# EAGLE library part ISL3152E (library U-Transceiver)
TRANSCEIVER RS485 5V HALFDPLX
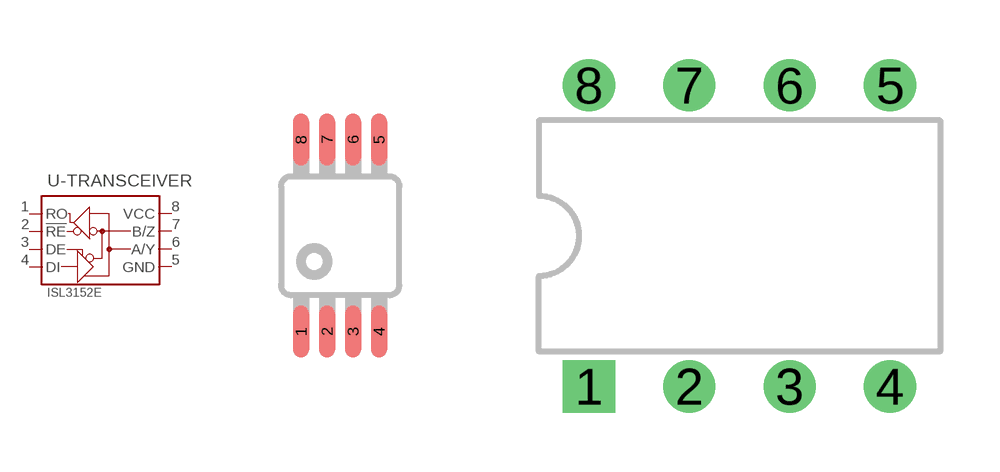
[diagram p1: symbol with the pads of MSOP8; footprints MSOP8, 8DIP]

Designator prefix U-TRANSCEIVER

## ISL3152EIUZ  [MSOP8]
1  RO  out
2  !RE  in
3  DE  in
4  DI  in
5  GND  pwr
6  A/Y
7  B/Z
8  VCC  pwr

## ISL3152EIPZ  [8DIP]
Pads as for MSOP8

## ISL3152EIBZ  [SOIC8]
Pads as for MSOP8

## Footprint MSOP8 (pad centres in mm)
MSOP8, 8-Lead, 0.118" Wide, Miniature Small Outline Package http://www.diodes.com/_files/zetex_files/pack/MSOP8.pdf Pad: 0.4 x 1.3mm Spacing: 0.65mm
smd 0.4 x 1.3: 1 -0.975,-2.4; 2 -0.325,-2.4; 3 0.325,-2.4; 4 0.975,-2.4; 5 0.975,2.4; 6 0.325,2.4; 7 -0.325,2.4; 8 -0.975,2.4

## Footprint 8DIP (pad centres in mm)
Dual In Line Package
drill 0.813 square: 1 -3.81,-3.81
drill 0.813: 2 -1.27,-3.81; 3 1.27,-3.81; 4 3.81,-3.81; 5 3.81,3.81; 6 1.27,3.81; 7 -1.27,3.81; 8 -3.81,3.81

## Footprint SOIC8 (pad centres in mm)
8POS Standard SMALLl OUTLINE Package (SO/SOIC) Narrow Body
smd 0.6 x 1.6: 1 -1.905,-2.54; 2 -0.635,-2.54; 3 0.635,-2.54; 4 1.905,-2.54; 5 1.905,2.54; 6 0.635,2.54; 7 -0.635,2.54; 8 -1.905,2.54